# EAGLE library part BQ24170 (library Neel)
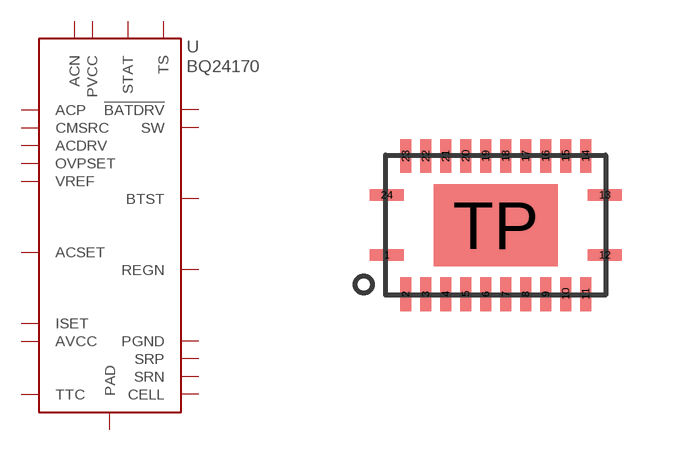
[diagram p79: symbol with the pads of QFN-24-TP; footprint QFN-24-TP]

Designator prefix -

## BQ24170  [QFN-24-TP]
1  SW
2  PVCC
3  PVCC
4  AVCC
5  ACN
6  ACP
7  CMSRC
8  ACDRV
9  STAT
10  TS
11  TTC
12  VREF
13  ISET
14  CELL
15  SRN
16  SRP
17  ACSET
18  OVPSET
19  !BATDRV
20  REGN
21  BTST
22  PGND
23  PGND
24  SW
TP  PAD

## Footprint QFN-24-TP (pad centres in mm)
smd 0.85 x 0.28: 1 -2.725,-0.75; 12 2.725,-0.75; 13 2.725,0.75; 24 -2.725,0.75
smd 0.28 x 0.85: 2 -2.25,-1.725; 3 -1.75,-1.725; 4 -1.25,-1.725; 5 -0.75,-1.725; 6 -0.25,-1.725; 7 0.25,-1.725; 8 0.75,-1.725; 9 1.25,-1.725; 10 1.75,-1.725; 11 2.25,-1.725; 14 2.25,1.725; 15 1.75,1.725; 16 1.25,1.725; 17 0.75,1.725; 18 0.25,1.725; 19 -0.25,1.725; 20 -0.75,1.725; 21 -1.25,1.725; 22 -1.75,1.725; 23 -2.25,1.725
smd 3.1 x 2.05: TP 0,0